# Altium schematic symbol library Samba2_Remote.SCHLIB: 4 symbols
Pins are listed as number, name and electrical type; pins without a type are passive.

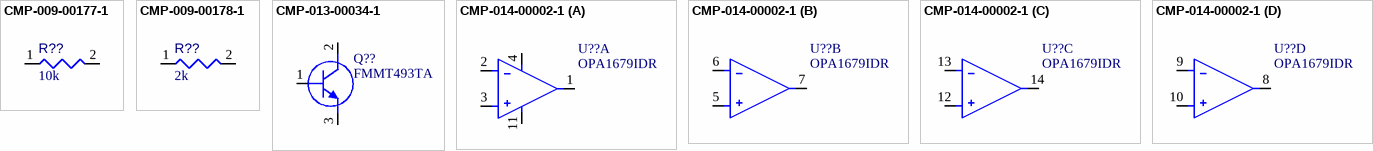
[diagram p0: symbols CMP-009-00177-1 to CMP-014-00002-1]

## CMP-009-00177-1
designator R??, comment value 10k  (hidden comment: RNCP0805FTD10K0)
Fixed Resistor, Thin Film, 0.25W, 10000ohm, 200V, 1% +/-Tol, 100ppm/Cel, Surface Mount, 0805; Manufacturer: Stackpole Electronics; Power: 250mW; Pins: 2; RoHS Compliant: Yes; Case/Package: 0805; Max Operating Temperature: 155°C; Min Operating Temperature: -55°C; Mounting Technology: Surface Mount; Tolerance: 1%; Manufacturer Part Number: RNCP0805FTD10K0; Component Type: Resistors
footprint FP-RNCP0805-MFG
pins: 1, 2
1 alternate drawing of the same symbol

## CMP-009-00178-1
designator R??, comment value 2k  (hidden comment: RNCP0805FTD2K00)
Fixed Resistor, Thin Film, 0.25W, 2000ohm, 200V, 1% +/-Tol, 100ppm/Cel, Surface Mount, 0805; Manufacturer: Stackpole Electronics; Power: 250mW; Case/Package: 0805; Pins: 2; Max Operating Temperature: 155°C; Min Operating Temperature: -55°C; Tolerance: 1%; Mounting Technology: Surface Mount; RoHS Compliant: Yes; Manufacturer Part Number: RNCP0805FTD2K00; Component Type: Resistors
footprint FP-RNCP0805-MFG
pins: 1, 2
1 alternate drawing of the same symbol

## CMP-013-00034-1
designator Q??, comment FMMT493TA
Small Signal Bipolar Transistor, 1A I(C), 100V V(BR)CEO, 1-Element, NPN, Silicon; Manufacturer: Diodes Zetex; Frequency: 150MHz; Max Operating Temperature: 150°C; RoHS Compliant: Yes; Pins: 3; Manufacturer Part Number: FMMT493TA; Component Type: Transistors
footprint SOT95P237X110-3N (SOT23, 3-Leads, Body 2.90x2.37mm, Pitch 0.95mm, IPC Medium Density)
pins: 1 B, 2 C, 3 E

## CMP-014-00002-1
designator U??, comment OPA1679IDR
Operational Amplifier, 4 Func, 2000uV Offset-Max, PDSO14; Manufacturer: Texas Instruments; RoHS Compliant: Yes; Manufacturer Part Number: OPA1679IDR; Component Type: Amplifiers
footprint FP-D0014A-MFG
part A pins: 1 OUT A, 2 -IN A, 3 +IN A, 4 VDD, 11 VSS
part B pins: 5 +IN B, 6 -IN B, 7 OUT B
part C pins: 12 +IN D, 13 -IN D, 14 OUT D
part D pins: 8 OUT C, 9 -IN C, 10 +IN C